# EAGLE library part GROM (library ti994a)
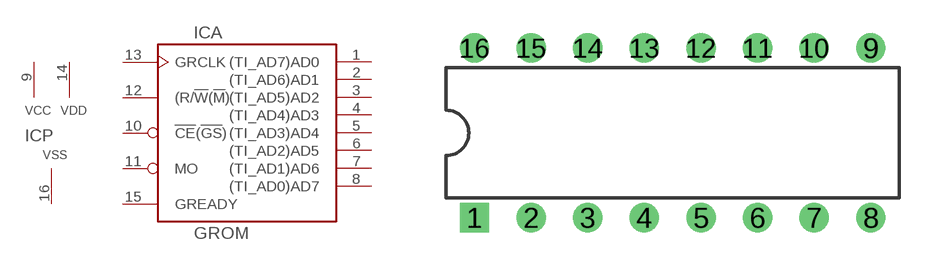
[diagram p4: symbol with the pads of DIL16-RP; footprint DIL16-RP]

Designator prefix IC; gates A=GROM P=PWR_VCC_VDD_VSS

## GROM  [DIL16-RP]
1  A:(TI_AD7)AD0
2  A:(TI_AD6)AD1
3  A:(TI_AD5)AD2
4  A:(TI_AD4)AD3
5  A:(TI_AD3)AD4
6  A:(TI_AD2)AD5
7  A:(TI_AD1)AD6
8  A:(TI_AD0)AD7
9  P:VCC  pwr
10  A:!CE!(!GS!)  in
11  A:MO  in
12  A:(R/!W!(!M!)  in
13  A:GRCLK  in
14  P:VDD  pwr
15  A:GREADY  oc
16  P:VSS  pwr

## Footprint DIL16-RP (pad centres in mm)
Dual In Line Package
drill 0.813 square: 1 -8.89,-3.81
drill 0.813: 2 -6.35,-3.81; 3 -3.81,-3.81; 4 -1.27,-3.81; 5 1.27,-3.81; 6 3.81,-3.81; 7 6.35,-3.81; 8 8.89,-3.81; 9 8.89,3.81; 10 6.35,3.81; 11 3.81,3.81; 12 1.27,3.81; 13 -1.27,3.81; 14 -3.81,3.81; 15 -6.35,3.81; 16 -8.89,3.81